# EAGLE library part STM32F415VG (library h8-stm32)
STM32 Mikrocontroller: STM32F415VGxx Documentary, Reference Manual and Datasheet: http://www.st.com/en/microcontrollers/stm32f415vg.html Created by Hans Achterbahn (https://github.com/HansAchterbahn)
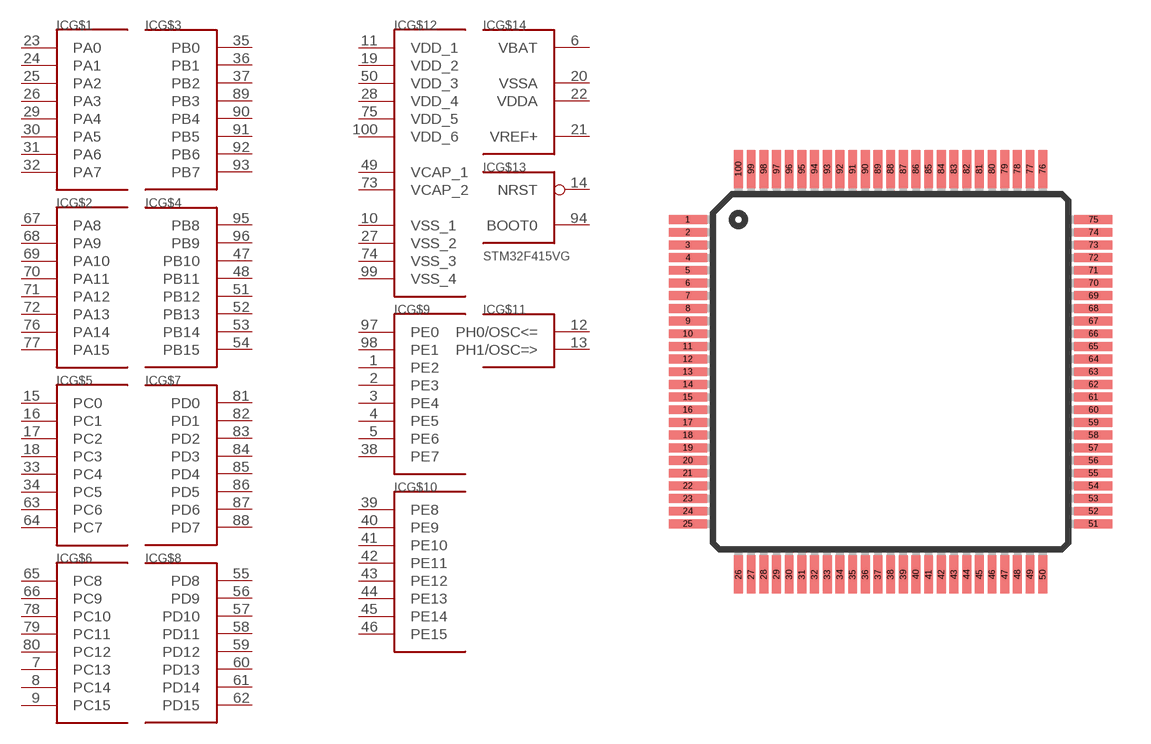
[diagram p11: symbol with the pads of TQFP100; footprint TQFP100]

Designator prefix IC; gates G$2=PORT_A_H G$1=PORT_A_L G$4=PORT_B_H G$3=PORT_B_L G$6=PORT_C_H G$5=PORT_C_L G$8=PORT_D_H G$7=PORT_D_L G$9=PORT_E_L G$10=PORT_E_H G$11=PORT_H_2 G$13=BOOT_RST G$12=VCC_VSS_L_2 G$14=BAT_AN_M+

## STM32F415VG (MF: ST; MFN: STM32F415VG; MOUSER: 511-STM32F415VGT6; RS-ONLINE: ---)  [TQFP100]
1  G$9:PE2
2  G$9:PE3
3  G$9:PE4
4  G$9:PE5
5  G$9:PE6
6  G$14:VBAT  pwr
7  G$6:PC13
8  G$6:PC14
9  G$6:PC15
10  G$12:VSS_1  pwr
11  G$12:VDD_1  pwr
12  G$11:PH0/OSC<=
13  G$11:PH1/OSC=>
14  G$13:NRST  in
15  G$5:PC0
16  G$5:PC1
17  G$5:PC2
18  G$5:PC3
19  G$12:VDD_2  pwr
20  G$14:VSSA  pwr
21  G$14:VREF+  in
22  G$14:VDDA  pwr
23  G$1:PA0
24  G$1:PA1
25  G$1:PA2
26  G$1:PA3
27  G$12:VSS_2  pwr
28  G$12:VDD_4  pwr
29  G$1:PA4
30  G$1:PA5
31  G$1:PA6
32  G$1:PA7
33  G$5:PC4
34  G$5:PC5
35  G$3:PB0
36  G$3:PB1
37  G$3:PB2
38  G$9:PE7
39  G$10:PE8
40  G$10:PE9
41  G$10:PE10
42  G$10:PE11
43  G$10:PE12
44  G$10:PE13
45  G$10:PE14
46  G$10:PE15
47  G$4:PB10
48  G$4:PB11
49  G$12:VCAP_1  pwr
50  G$12:VDD_3  pwr
51  G$4:PB12
52  G$4:PB13
53  G$4:PB14
54  G$4:PB15
55  G$8:PD8
56  G$8:PD9
57  G$8:PD10
58  G$8:PD11
59  G$8:PD12
60  G$8:PD13
61  G$8:PD14
62  G$8:PD15
63  G$5:PC6
64  G$5:PC7
65  G$6:PC8
66  G$6:PC9
67  G$2:PA8
68  G$2:PA9
69  G$2:PA10
70  G$2:PA11
71  G$2:PA12
72  G$2:PA13
73  G$12:VCAP_2  pwr
74  G$12:VSS_3  pwr
75  G$12:VDD_5  pwr
76  G$2:PA14
77  G$2:PA15
78  G$6:PC10
79  G$6:PC11
80  G$6:PC12
81  G$7:PD0
82  G$7:PD1
83  G$7:PD2
84  G$7:PD3
85  G$7:PD4
86  G$7:PD5
87  G$7:PD6
88  G$7:PD7
89  G$3:PB3
90  G$3:PB4
91  G$3:PB5
92  G$3:PB6
93  G$3:PB7
94  G$13:BOOT0  in
95  G$4:PB8
96  G$4:PB9
97  G$9:PE0
98  G$9:PE1
99  G$12:VSS_4  pwr
100  G$12:VDD_6  pwr

## Footprint TQFP100 (pad centres in mm)
smd 1.5 x 0.35: 1 -8,6; 2 -8,5.5; 3 -8,5; 4 -8,4.5; 5 -8,4; 6 -8,3.5; 7 -8,3; 8 -8,2.5; 9 -8,2; 10 -8,1.5; 11 -8,1; 12 -8,0.5; 13 -8,0; 14 -8,-0.5; 15 -8,-1; 16 -8,-1.5; 17 -8,-2; 18 -8,-2.5; 19 -8,-3; 20 -8,-3.5; 21 -8,-4; 22 -8,-4.5; 23 -8,-5; 24 -8,-5.5; 25 -8,-6; 51 8,-6; 52 8,-5.5; 53 8,-5; 54 8,-4.5; 55 8,-4; 56 8,-3.5; 57 8,-3; 58 8,-2.5; 59 8,-2; 60 8,-1.5; 61 8,-1; 62 8,-0.5; 63 8,0; 64 8,0.5; 65 8,1; 66 8,1.5; 67 8,2; 68 8,2.5; 69 8,3; 70 8,3.5; 71 8,4; 72 8,4.5; 73 8,5; 74 8,5.5; 75 8,6
smd 0.35 x 1.5: 26 -6,-8; 27 -5.5,-8; 28 -5,-8; 29 -4.5,-8; 30 -4,-8; 31 -3.5,-8; 32 -3,-8; 33 -2.5,-8; 34 -2,-8; 35 -1.5,-8; 36 -1,-8; 37 -0.5,-8; 38 0,-8; 39 0.5,-8; 40 1,-8; 41 1.5,-8; 42 2,-8; 43 2.5,-8; 44 3,-8; 45 3.5,-8; 46 4,-8; 47 4.5,-8; 48 5,-8; 49 5.5,-8; 50 6,-8; 76 6,8; 77 5.5,8; 78 5,8; 79 4.5,8; 80 4,8; 81 3.5,8; 82 3,8; 83 2.5,8; 84 2,8; 85 1.5,8; 86 1,8; 87 0.5,8; 88 0,8; 89 -0.5,8; 90 -1,8; 91 -1.5,8; 92 -2,8; 93 -2.5,8; 94 -3,8; 95 -3.5,8; 96 -4,8; 97 -4.5,8; 98 -5,8; 99 -5.5,8; 100 -6,8